# EAGLE library part 6270XX21621_62703021621 (library WR-BHD)
WR-BHD 1.27 mm Male Box Header KIND PROPERTIES: Pitch 1.27 mm Gender:Male MATERIAL PROPERTIES: Insulator Material Nylon 9T Insulator Flammability Rating UL94 V-0 Insulator Color Black Contact Material Brass Contact Plating Gold over Nickel GENERAL INFORMATION: Operating Temperature -40 up to +105 °C Working Voltage 50 V (AC) Withstanding Voltage 500 V (AC) Contact Resistance 20 mΩ RISO 1000 MΩ CERTIFICATION: UL Approval E323964 <https://www.we-online.com/catalog/media/o375404v209%20Family_WR-BHD_6270xx21621.jpg> Details see: https://www.we-online.com/catalog/en/WR_BHD_1_27_MM_MALE_BOX_HEADER Created by Ella Wu 2021-08-24 2021 (C) Würth Elektronik
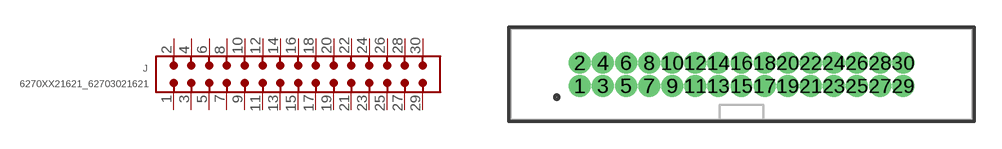
[diagram p92: symbol with the pads of 62703021621; footprint 62703021621]

Designator prefix J

## 6270XX21621_62703021621 (CONTACT-RESISTANCE: 20mOhm; DATASHEET-URL: https://www.we-online.com/redexpert/spec/62703021621?ae; GENDER: Male; IR: 1A; LENGTH: 25.4mm; MOUNT: THT; PART-NUMBER: 62703021621; PINS: 30; PITCH: 1.27mm; TYPE: Straight; VALUE: 62703021621; WORKING-VOLTAGE: 50V(AC))  [62703021621]
1  1  pas
2  2  pas
3  3  pas
4  4  pas
5  5  pas
6  6  pas
7  7  pas
8  8  pas
9  9  pas
10  10  pas
11  11  pas
12  12  pas
13  13  pas
14  14  pas
15  15  pas
16  16  pas
17  17  pas
18  18  pas
19  19  pas
20  20  pas
21  21  pas
22  22  pas
23  23  pas
24  24  pas
25  25  pas
26  26  pas
27  27  pas
28  28  pas
29  29  pas
30  30  pas

## Footprint 62703021621 (pad centres in mm)
WR-BHD 1.27mm Male THT Box Header Straight, 30Pins
drill 0.7 pad 1.05: 1 -8.89,-0.635; 2 -8.89,0.635; 3 -7.62,-0.635; 4 -7.62,0.635; 5 -6.35,-0.635; 6 -6.35,0.635; 7 -5.08,-0.635; 8 -5.08,0.635; 9 -3.81,-0.635; 10 -3.81,0.635; 11 -2.54,-0.635; 12 -2.54,0.635; 13 -1.27,-0.635; 14 -1.27,0.635; 15 0,-0.635; 16 0,0.635; 17 1.27,-0.635; 18 1.27,0.635; 19 2.54,-0.635; 20 2.54,0.635; 21 3.81,-0.635; 22 3.81,0.635; 23 5.08,-0.635; 24 5.08,0.635; 25 6.35,-0.635; 26 6.35,0.635; 27 7.62,-0.635; 28 7.62,0.635; 29 8.89,-0.635; 30 8.89,0.635